# Altium footprint library DIP.PcbLib: 1 footprints
Each footprint in its own frame and in the unit in brackets; x right, y up, seen from the top. Pads: shape width x height; smd on the part's side, far side on the other; paste and mask are expansions set on the pad; w line width, h text height; cw(c..) or ccw(c..) is an arc to the next point about the centre after c.
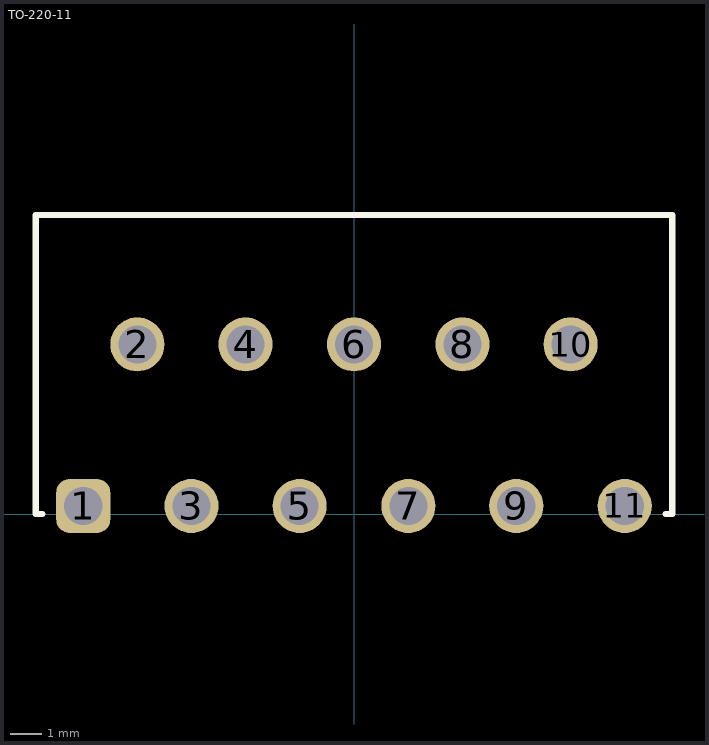
[diagram p0: the footprint, top view; thin cyan lines are the x and y axes]

## TO-220-11 [mm]
pads (11):
  rrect50% 1.7x1.7 hole 1.2: 1(-8.509,0.254)
  round 1.7 hole 1.2: 2(-6.809,5.334) 3(-5.109,0.254) 4(-3.409,5.334) 5(-1.709,0.254) 6(0,5.334) 7(1.709,0.254) 8(3.409,5.334) 9(5.1,0.254) 10(6.809,5.334) 11(8.509,0.254)
Top Overlay:
  lines w0.2: -9.8,0 -10,0 -10,9.4 10,9.4 10,0 9.8,0
3D body "User Library-LM3886T-A.STEP": height 22.15, standoff -2.65, extent -10,0 10,9.58